# EAGLE library part POWERBOX (library ecar)
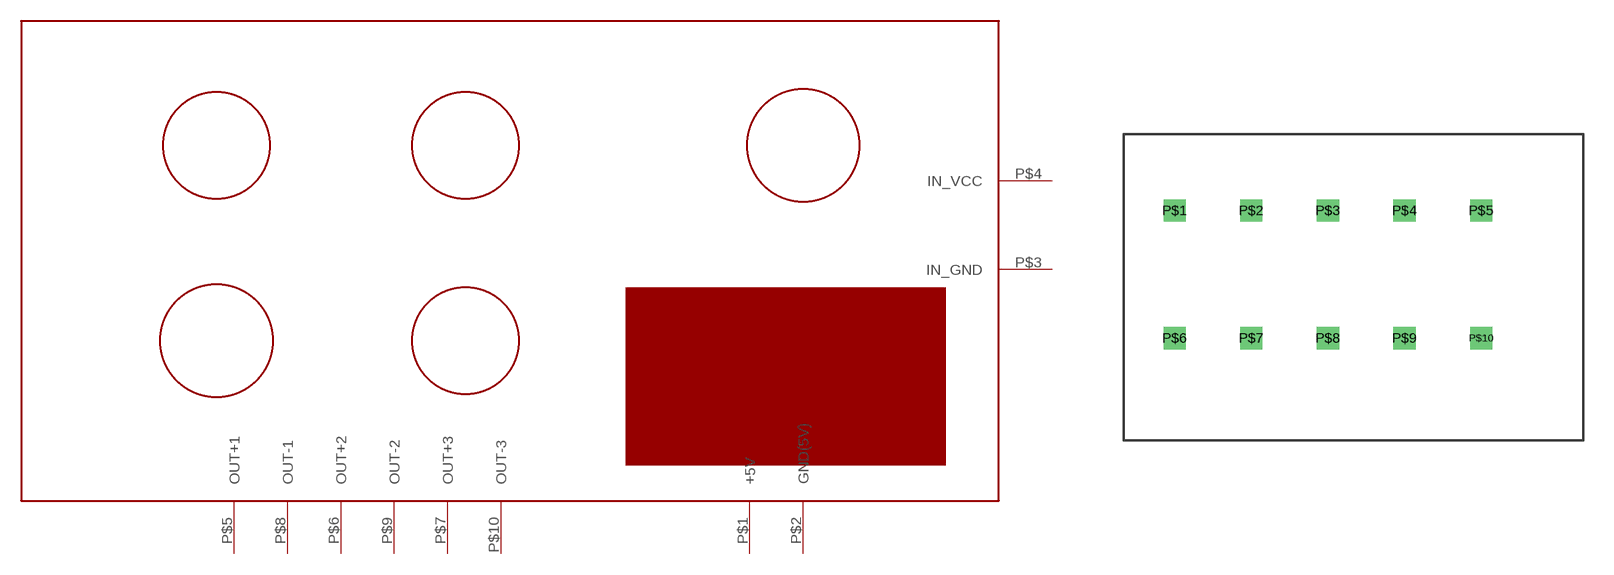
[diagram p6: symbol with the pads of POWERBOX; footprint POWERBOX]

Designator prefix -

## POWERBOX  [POWERBOX]
P$1  +5V
P$2  GND(5V)
P$3  IN_GND
P$4  IN_VCC
P$5  OUT+1
P$6  OUT+2
P$7  OUT+3
P$8  OUT-1
P$9  OUT-2
P$10  OUT-3

## Footprint POWERBOX (pad centres in mm)
drill 0.6 square: P$1 2.54,11.43; P$2 6.35,11.43; P$3 10.16,11.43; P$4 13.97,11.43; P$5 17.78,11.43; P$6 2.54,5.08; P$7 6.35,5.08; P$8 10.16,5.08; P$9 13.97,5.08; P$10 17.78,5.08